# Altium schematic symbol library SN74LVC32APW.SchLib: 1 symbol
Pins are listed as number, name and electrical type; pins without a type are passive.

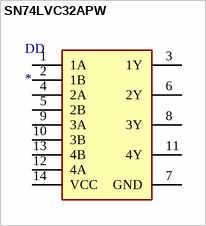
[diagram p0: symbol SN74LVC32APW]

## SN74LVC32APW
designator DD
Integrated Circuit; Manufacturer_Name: Texas Instruments; Manufacturer_Part_Number: SN74LVC32APW; Description: Quadruple 2-Input Positive-OR Gate; Datasheet Link: http://www.ti.com/lit/ds/symlink/sn74lvc32a.pdf; Height: 1.2mm; Mouser Part Number: 595-SN74LVC32APW; Mouser Price/Stock: https://www.mouser.co.uk/ProductDetail/Texas-Instruments/SN74LVC32APW?qs=dT9u2OTAaVV8v96OlW38Ew%3D%3D; Arrow Part Number: SN74LVC32APW; Arrow Price/Stock: https://www.arrow.com/en/products/sn74lvc32apw/texas-instruments?region=nac
footprint SOP65P640X120-14N
pins: 1 1A, 2 1B, 3 1Y, 4 2A, 5 2B, 6 2Y, 7 GND, 8 3Y, 9 3A, 10 3B, 11 4Y, 12 4A, 13 4B, 14 VCC